# Altium schematic symbol library Schlib1.SchLib: 3 symbols
Pins are listed as number, name and electrical type; pins without a type are passive.

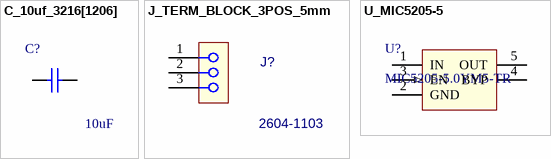
[diagram p0: symbols C_10uf_3216[1206] to U_MIC5205-5]

## C_10uf_3216[1206]
designator C?, comment value 10uF  (hidden comment: C1206C106K3RACTU)
Capacitor Céramique 10uf XR7 25V 10%; Manufacturer: KEMET; ManufacturerPartNumber: C1206C106K3RACTU; Supplier 1: Digi-Key; Supplier Part Number 1: 399-7442-1-ND; MountingType: SMT
footprint C_3216[1206]_N
pins: 1, 2

## J_TERM_BLOCK_3POS_5mm
designator J?, comment 2604-1103
CONN TERM BLOCK 3POS 5mm pitch; Manufacturer: Wago; Manufacturer_PN: 2604-1103; RoHS: Yes; MountingType: TH; Supplier 1: Element14; Supplier Part Number 1: 2749666
footprint J_TERM_BLOCK_3POS_TH_5mm_Model2 (Terminal Block 3 positions Throught hole)
pins: 1 "USB Vcc [Red]", 2 "USB Data - [White]", 3 "USB Data - [White]"

## U_MIC5205-5
designator U?, comment MIC5205-5.0YM5-TR
LDO 5V 150mA; Manufacturer: Microchip; ManufacturerPartNumber: MIC5205-5.0YM5-TR; MountingType: SMT; Supplier 1: Digi-Key; Supplier Part Number 1: 576-1261-1-ND
footprint Model Name (Footprint not found)
footprint SOT23-5N(MO-178)
pins: 1 IN (power), 2 GND (power), 3 EN (in), 4 BYP, 5 OUT (power)